# Altium schematic symbol library FQD11P06TM.SchLib: 1 symbol
Pins are listed as number, name and electrical type; pins without a type are passive.

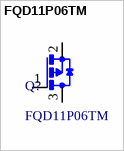
[diagram p0: symbol FQD11P06TM]

## FQD11P06TM
designator Q?
MOSFET 40V N-CHANNEL DUAL; Manufacturer: ON Semiconductor; Vgs(th): -4V; Vgs(max): 20V; Vds(max): -60V; Rds(on): 185m; Id(max): 9.4A; Gate charge: 17nC; PN: FQD11P06TM; Footprint: TO252 (DPAK); Package: TO252 (DPAK); Supplier 1: Mouser; Supplier Part Number 1: 512-FQD11P06TM
footprint TSMT8
footprint DPAK229P990X239-4N
footprint DPAK229P990X239-4N
footprint DPAK229P990X239-4N
pins: 1 G, 2 S, 3 D